# Altium integrated library MWSA0603S-220MT.IntLib: 1 symbol
Pins are listed as number, name and electrical type; pins without a type are passive.

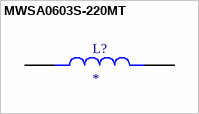
[diagram p0: symbol MWSA0603S-220MT]

## MWSA0603S-220MT
designator L?
22 ÂµH Unshielded Drum Core, Wirewound Inductor 2.5 A 170mOhm Max Nonstandard -; MF: Shenzhen Sunlord Electronics Co., Ltd.; MP: MWSA0603S-220MT; SnapEDA_Link: https://www.snapeda.com/parts/MWSA0603S-220MT/Shenzhen+Huacan+Tianlu+Electronics+Co.%252C+Ltd./view-part/?ref=snap; Package: None; Value: *; Check_prices: https://www.snapeda.com/parts/MWSA0603S-220MT/Shenzhen+Huacan+Tianlu+Electronics+Co.%252C+Ltd./view-part/?ref=eda
footprint INDM7066X300N
pins: 1, 2